# Altium integrated library con-leotronics.IntLib: 93 symbols (part 4 of 4)

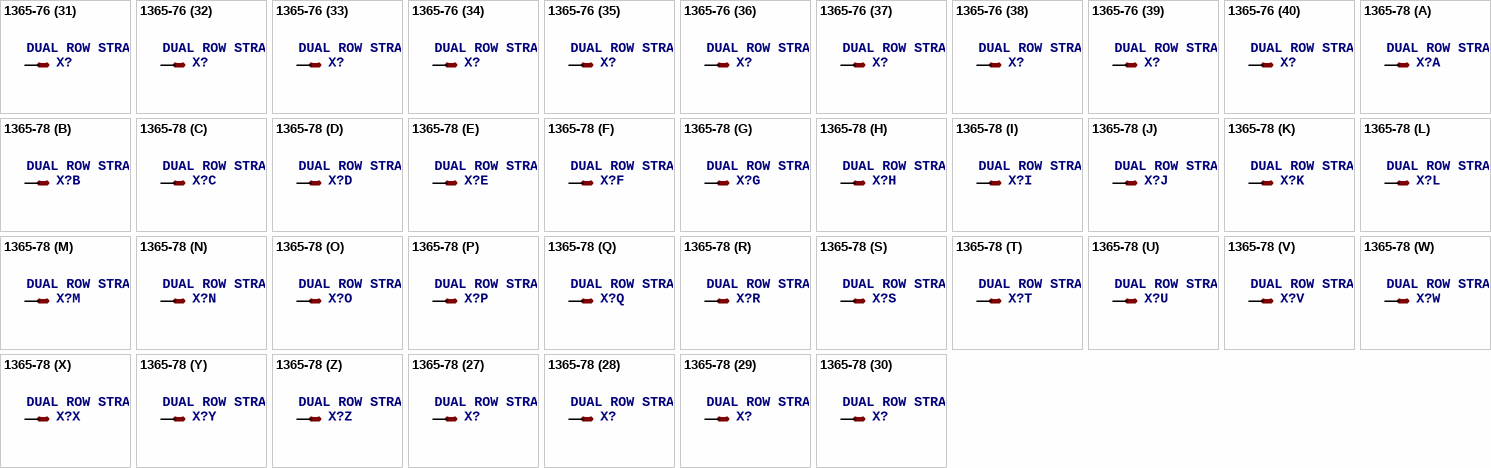
[diagram p69: symbols 1365-76 to 1365-78]

## 1365-76
designator X?, comment DUAL ROW STRAIGHT HEADER 1364 SERIES. 1.27mm x 1.27mm. Without Fixing Post. SMT   Source: http://www.leotronics.co.uk/Conexcon/Data%20Sheets/sec.%20A/1364ing.pdf
OC_FARNELL: unknown; OC_NEWARK: unknown
footprint 1365-76
part A pins: 1 S
part B pins: 2 S
part C pins: 3 S
part D pins: 4 S
part E pins: 5 S
part F pins: 6 S
part G pins: 7 S
part H pins: 8 S
part I pins: 9 S
part J pins: 10 S
part K pins: 11 S
part L pins: 12 S
part M pins: 13 S
part N pins: 14 S
part O pins: 15 S
part P pins: 16 S
part Q pins: 17 S
part R pins: 18 S
part S pins: 19 S
part T pins: 20 S
part U pins: 21 S
part V pins: 22 S
part W pins: 23 S
part X pins: 24 S
part Y pins: 25 S
part Z pins: 26 S
part 27 pins: 27 S
part 28 pins: 28 S
part 29 pins: 29 S
part 30 pins: 30 S
part 31 pins: 31 S
part 32 pins: 32 S
part 33 pins: 33 S
part 34 pins: 34 S
part 35 pins: 35 S
part 36 pins: 36 S
part 37 pins: 37 S
part 38 pins: 38 S
part 39 pins: 39 S
part 40 pins: 40 S
part 41 pins: 41 S
part 42 pins: 42 S
part 43 pins: 43 S
part 44 pins: 44 S
part 45 pins: 45 S
part 46 pins: 46 S
part 47 pins: 47 S
part 48 pins: 48 S
part 49 pins: 49 S
part 50 pins: 50 S
part 51 pins: 51 S
part 52 pins: 52 S
part 53 pins: 53 S
part 54 pins: 54 S
part 55 pins: 55 S
part 56 pins: 56 S
part 57 pins: 57 S
part 58 pins: 58 S
part 59 pins: 59 S
part 60 pins: 60 S
part 61 pins: 61 S
part 62 pins: 62 S
part 63 pins: 63 S
part 64 pins: 64 S
part 65 pins: 65 S
part 66 pins: 66 S
part 67 pins: 67 S
part 68 pins: 68 S
part 69 pins: 69 S
part 70 pins: 70 S
part 71 pins: 71 S
part 72 pins: 72 S
part 73 pins: 73 S
part 74 pins: 74 S
part 75 pins: 75 S
part 76 pins: 76 S

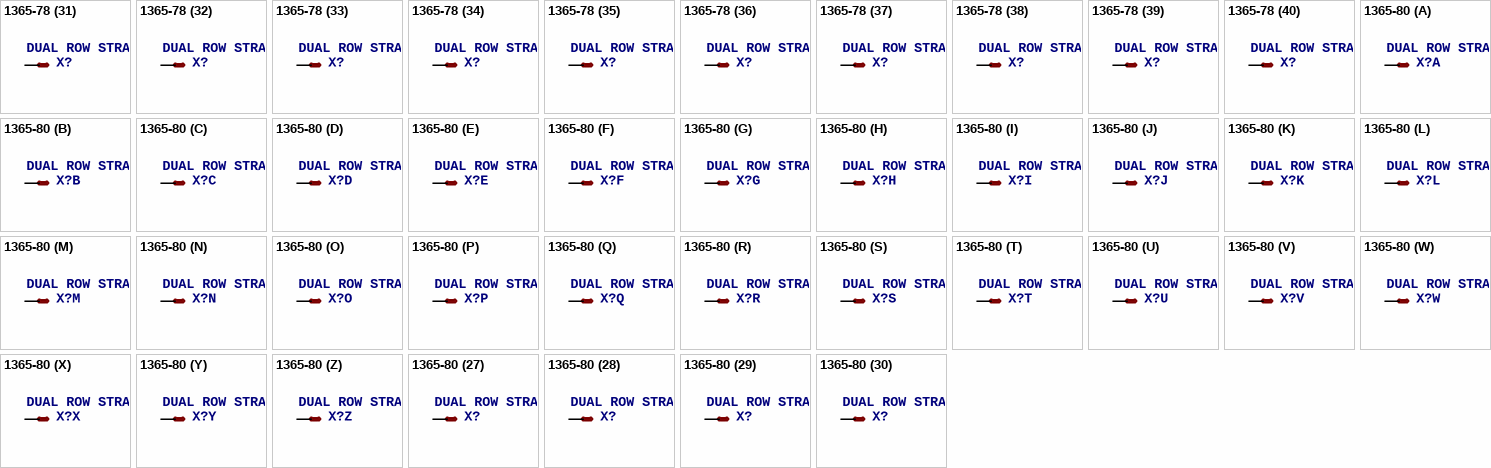
[diagram p70: symbols 1365-78 to 1365-80]

## 1365-78
designator X?, comment DUAL ROW STRAIGHT HEADER 1364 SERIES. 1.27mm x 1.27mm. Without Fixing Post. SMT   Source: http://www.leotronics.co.uk/Conexcon/Data%20Sheets/sec.%20A/1364ing.pdf
OC_FARNELL: unknown; OC_NEWARK: unknown
footprint 1365-78
part A pins: 1 S
part B pins: 2 S
part C pins: 3 S
part D pins: 4 S
part E pins: 5 S
part F pins: 6 S
part G pins: 7 S
part H pins: 8 S
part I pins: 9 S
part J pins: 10 S
part K pins: 11 S
part L pins: 12 S
part M pins: 13 S
part N pins: 14 S
part O pins: 15 S
part P pins: 16 S
part Q pins: 17 S
part R pins: 18 S
part S pins: 19 S
part T pins: 20 S
part U pins: 21 S
part V pins: 22 S
part W pins: 23 S
part X pins: 24 S
part Y pins: 25 S
part Z pins: 26 S
part 27 pins: 27 S
part 28 pins: 28 S
part 29 pins: 29 S
part 30 pins: 30 S
part 31 pins: 31 S
part 32 pins: 32 S
part 33 pins: 33 S
part 34 pins: 34 S
part 35 pins: 35 S
part 36 pins: 36 S
part 37 pins: 37 S
part 38 pins: 38 S
part 39 pins: 39 S
part 40 pins: 40 S
part 41 pins: 41 S
part 42 pins: 42 S
part 43 pins: 43 S
part 44 pins: 44 S
part 45 pins: 45 S
part 46 pins: 46 S
part 47 pins: 47 S
part 48 pins: 48 S
part 49 pins: 49 S
part 50 pins: 50 S
part 51 pins: 51 S
part 52 pins: 52 S
part 53 pins: 53 S
part 54 pins: 54 S
part 55 pins: 55 S
part 56 pins: 56 S
part 57 pins: 57 S
part 58 pins: 58 S
part 59 pins: 59 S
part 60 pins: 60 S
part 61 pins: 61 S
part 62 pins: 62 S
part 63 pins: 63 S
part 64 pins: 64 S
part 65 pins: 65 S
part 66 pins: 66 S
part 67 pins: 67 S
part 68 pins: 68 S
part 69 pins: 69 S
part 70 pins: 70 S
part 71 pins: 71 S
part 72 pins: 72 S
part 73 pins: 73 S
part 74 pins: 74 S
part 75 pins: 75 S
part 76 pins: 76 S
part 77 pins: 77 S
part 78 pins: 78 S

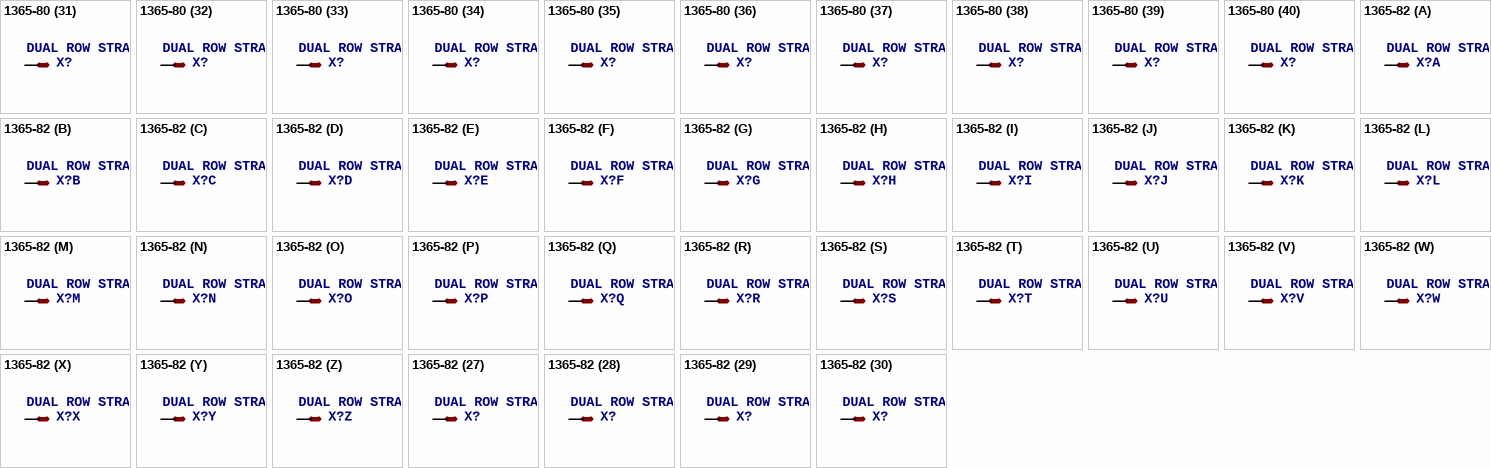
[diagram p71: symbols 1365-80 to 1365-82]

## 1365-80
designator X?, comment DUAL ROW STRAIGHT HEADER 1364 SERIES. 1.27mm x 1.27mm. Without Fixing Post. SMT   Source: http://www.leotronics.co.uk/Conexcon/Data%20Sheets/sec.%20A/1364ing.pdf
OC_FARNELL: unknown; OC_NEWARK: unknown
footprint 1365-80
part A pins: 1 S
part B pins: 2 S
part C pins: 3 S
part D pins: 4 S
part E pins: 5 S
part F pins: 6 S
part G pins: 7 S
part H pins: 8 S
part I pins: 9 S
part J pins: 10 S
part K pins: 11 S
part L pins: 12 S
part M pins: 13 S
part N pins: 14 S
part O pins: 15 S
part P pins: 16 S
part Q pins: 17 S
part R pins: 18 S
part S pins: 19 S
part T pins: 20 S
part U pins: 21 S
part V pins: 22 S
part W pins: 23 S
part X pins: 24 S
part Y pins: 25 S
part Z pins: 26 S
part 27 pins: 27 S
part 28 pins: 28 S
part 29 pins: 29 S
part 30 pins: 30 S
part 31 pins: 31 S
part 32 pins: 32 S
part 33 pins: 33 S
part 34 pins: 34 S
part 35 pins: 35 S
part 36 pins: 36 S
part 37 pins: 37 S
part 38 pins: 38 S
part 39 pins: 39 S
part 40 pins: 40 S
part 41 pins: 41 S
part 42 pins: 42 S
part 43 pins: 43 S
part 44 pins: 44 S
part 45 pins: 45 S
part 46 pins: 46 S
part 47 pins: 47 S
part 48 pins: 48 S
part 49 pins: 49 S
part 50 pins: 50 S
part 51 pins: 51 S
part 52 pins: 52 S
part 53 pins: 53 S
part 54 pins: 54 S
part 55 pins: 55 S
part 56 pins: 56 S
part 57 pins: 57 S
part 58 pins: 58 S
part 59 pins: 59 S
part 60 pins: 60 S
part 61 pins: 61 S
part 62 pins: 62 S
part 63 pins: 63 S
part 64 pins: 64 S
part 65 pins: 65 S
part 66 pins: 66 S
part 67 pins: 67 S
part 68 pins: 68 S
part 69 pins: 69 S
part 70 pins: 70 S
part 71 pins: 71 S
part 72 pins: 72 S
part 73 pins: 73 S
part 74 pins: 74 S
part 75 pins: 75 S
part 76 pins: 76 S
part 77 pins: 77 S
part 78 pins: 78 S
part 79 pins: 79 S
part 80 pins: 80 S

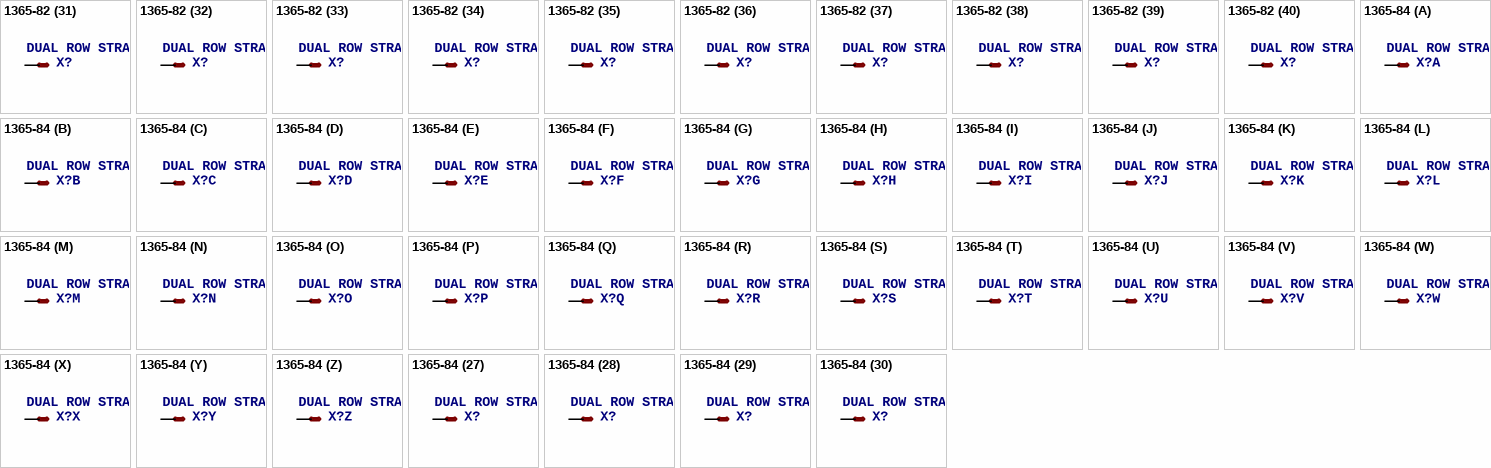
[diagram p72: symbols 1365-82 to 1365-84]

## 1365-82
designator X?, comment DUAL ROW STRAIGHT HEADER 1364 SERIES. 1.27mm x 1.27mm. Without Fixing Post. SMT   Source: http://www.leotronics.co.uk/Conexcon/Data%20Sheets/sec.%20A/1364ing.pdf
OC_FARNELL: unknown; OC_NEWARK: unknown
footprint 1365-82
part A pins: 1 S
part B pins: 2 S
part C pins: 3 S
part D pins: 4 S
part E pins: 5 S
part F pins: 6 S
part G pins: 7 S
part H pins: 8 S
part I pins: 9 S
part J pins: 10 S
part K pins: 11 S
part L pins: 12 S
part M pins: 13 S
part N pins: 14 S
part O pins: 15 S
part P pins: 16 S
part Q pins: 17 S
part R pins: 18 S
part S pins: 19 S
part T pins: 20 S
part U pins: 21 S
part V pins: 22 S
part W pins: 23 S
part X pins: 24 S
part Y pins: 25 S
part Z pins: 26 S
part 27 pins: 27 S
part 28 pins: 28 S
part 29 pins: 29 S
part 30 pins: 30 S
part 31 pins: 31 S
part 32 pins: 32 S
part 33 pins: 33 S
part 34 pins: 34 S
part 35 pins: 35 S
part 36 pins: 36 S
part 37 pins: 37 S
part 38 pins: 38 S
part 39 pins: 39 S
part 40 pins: 40 S
part 41 pins: 41 S
part 42 pins: 42 S
part 43 pins: 43 S
part 44 pins: 44 S
part 45 pins: 45 S
part 46 pins: 46 S
part 47 pins: 47 S
part 48 pins: 48 S
part 49 pins: 49 S
part 50 pins: 50 S
part 51 pins: 51 S
part 52 pins: 52 S
part 53 pins: 53 S
part 54 pins: 54 S
part 55 pins: 55 S
part 56 pins: 56 S
part 57 pins: 57 S
part 58 pins: 58 S
part 59 pins: 59 S
part 60 pins: 60 S
part 61 pins: 61 S
part 62 pins: 62 S
part 63 pins: 63 S
part 64 pins: 64 S
part 65 pins: 65 S
part 66 pins: 66 S
part 67 pins: 67 S
part 68 pins: 68 S
part 69 pins: 69 S
part 70 pins: 70 S
part 71 pins: 71 S
part 72 pins: 72 S
part 73 pins: 73 S
part 74 pins: 74 S
part 75 pins: 75 S
part 76 pins: 76 S
part 77 pins: 77 S
part 78 pins: 78 S
part 79 pins: 79 S
part 80 pins: 80 S
part 81 pins: 81 S
part 82 pins: 82 S

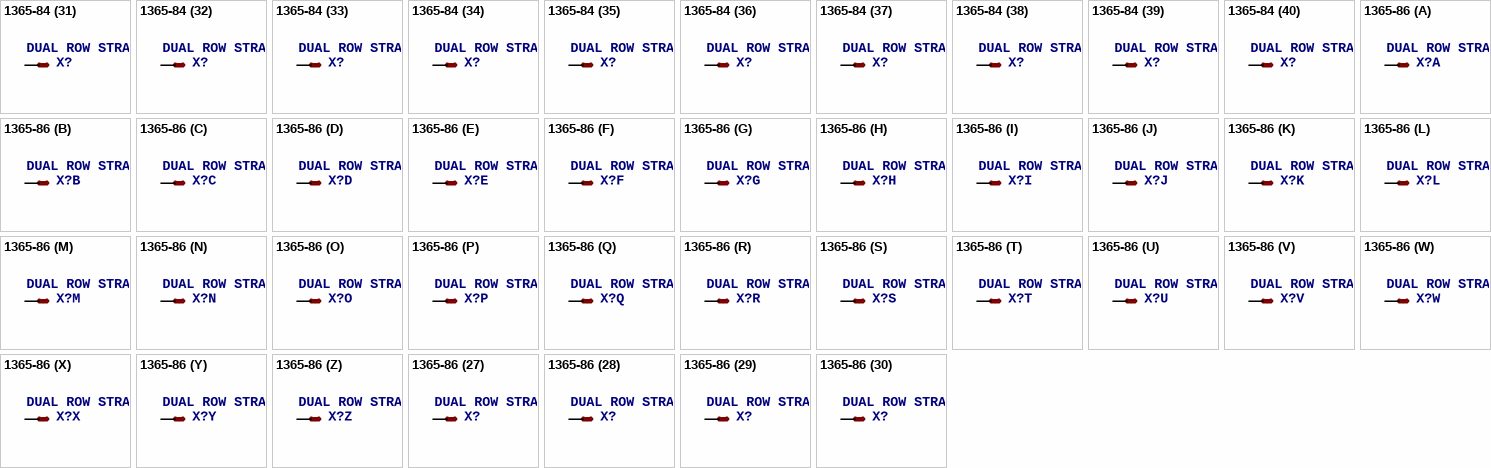
[diagram p73: symbols 1365-84 to 1365-86]

## 1365-84
designator X?, comment DUAL ROW STRAIGHT HEADER 1364 SERIES. 1.27mm x 1.27mm. Without Fixing Post. SMT   Source: http://www.leotronics.co.uk/Conexcon/Data%20Sheets/sec.%20A/1364ing.pdf
OC_FARNELL: unknown; OC_NEWARK: unknown
footprint 1365-84
part A pins: 1 S
part B pins: 2 S
part C pins: 3 S
part D pins: 4 S
part E pins: 5 S
part F pins: 6 S
part G pins: 7 S
part H pins: 8 S
part I pins: 9 S
part J pins: 10 S
part K pins: 11 S
part L pins: 12 S
part M pins: 13 S
part N pins: 14 S
part O pins: 15 S
part P pins: 16 S
part Q pins: 17 S
part R pins: 18 S
part S pins: 19 S
part T pins: 20 S
part U pins: 21 S
part V pins: 22 S
part W pins: 23 S
part X pins: 24 S
part Y pins: 25 S
part Z pins: 26 S
part 27 pins: 27 S
part 28 pins: 28 S
part 29 pins: 29 S
part 30 pins: 30 S
part 31 pins: 31 S
part 32 pins: 32 S
part 33 pins: 33 S
part 34 pins: 34 S
part 35 pins: 35 S
part 36 pins: 36 S
part 37 pins: 37 S
part 38 pins: 38 S
part 39 pins: 39 S
part 40 pins: 40 S
part 41 pins: 41 S
part 42 pins: 42 S
part 43 pins: 43 S
part 44 pins: 44 S
part 45 pins: 45 S
part 46 pins: 46 S
part 47 pins: 47 S
part 48 pins: 48 S
part 49 pins: 49 S
part 50 pins: 50 S
part 51 pins: 51 S
part 52 pins: 52 S
part 53 pins: 53 S
part 54 pins: 54 S
part 55 pins: 55 S
part 56 pins: 56 S
part 57 pins: 57 S
part 58 pins: 58 S
part 59 pins: 59 S
part 60 pins: 60 S
part 61 pins: 61 S
part 62 pins: 62 S
part 63 pins: 63 S
part 64 pins: 64 S
part 65 pins: 65 S
part 66 pins: 66 S
part 67 pins: 67 S
part 68 pins: 68 S
part 69 pins: 69 S
part 70 pins: 70 S
part 71 pins: 71 S
part 72 pins: 72 S
part 73 pins: 73 S
part 74 pins: 74 S
part 75 pins: 75 S
part 76 pins: 76 S
part 77 pins: 77 S
part 78 pins: 78 S
part 79 pins: 79 S
part 80 pins: 80 S
part 81 pins: 81 S
part 82 pins: 82 S
part 83 pins: 83 S
part 84 pins: 84 S

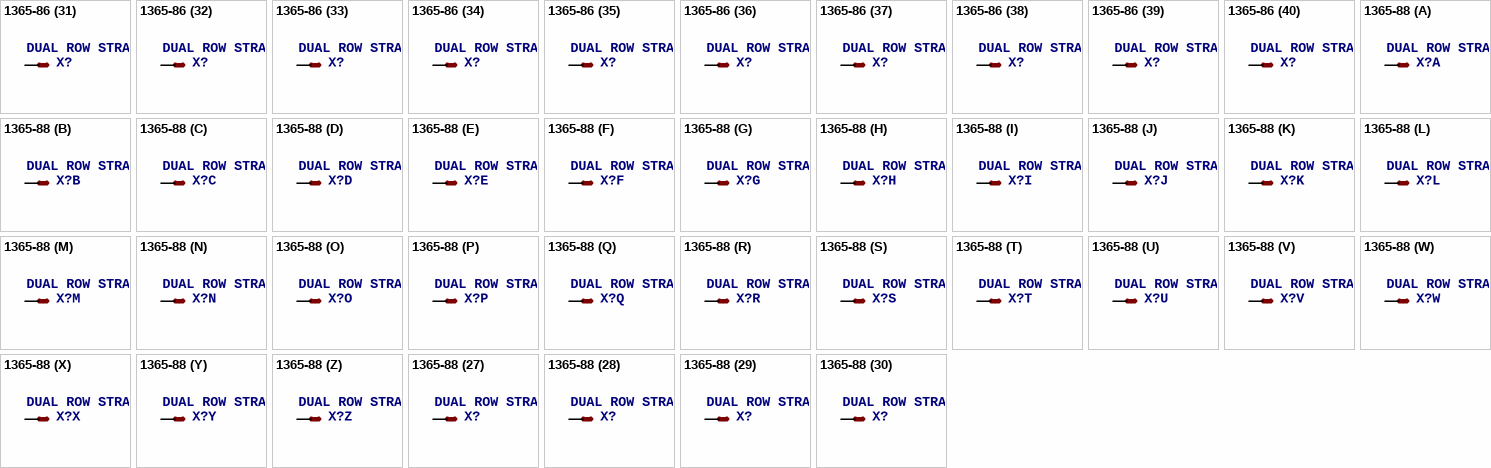
[diagram p74: symbols 1365-86 to 1365-88]

## 1365-86
designator X?, comment DUAL ROW STRAIGHT HEADER 1364 SERIES. 1.27mm x 1.27mm. Without Fixing Post. SMT   Source: http://www.leotronics.co.uk/Conexcon/Data%20Sheets/sec.%20A/1364ing.pdf
OC_FARNELL: unknown; OC_NEWARK: unknown
footprint 1365-86
part A pins: 1 S
part B pins: 2 S
part C pins: 3 S
part D pins: 4 S
part E pins: 5 S
part F pins: 6 S
part G pins: 7 S
part H pins: 8 S
part I pins: 9 S
part J pins: 10 S
part K pins: 11 S
part L pins: 12 S
part M pins: 13 S
part N pins: 14 S
part O pins: 15 S
part P pins: 16 S
part Q pins: 17 S
part R pins: 18 S
part S pins: 19 S
part T pins: 20 S
part U pins: 21 S
part V pins: 22 S
part W pins: 23 S
part X pins: 24 S
part Y pins: 25 S
part Z pins: 26 S
part 27 pins: 27 S
part 28 pins: 28 S
part 29 pins: 29 S
part 30 pins: 30 S
part 31 pins: 31 S
part 32 pins: 32 S
part 33 pins: 33 S
part 34 pins: 34 S
part 35 pins: 35 S
part 36 pins: 36 S
part 37 pins: 37 S
part 38 pins: 38 S
part 39 pins: 39 S
part 40 pins: 40 S
part 41 pins: 41 S
part 42 pins: 42 S
part 43 pins: 43 S
part 44 pins: 44 S
part 45 pins: 45 S
part 46 pins: 46 S
part 47 pins: 47 S
part 48 pins: 48 S
part 49 pins: 49 S
part 50 pins: 50 S
part 51 pins: 51 S
part 52 pins: 52 S
part 53 pins: 53 S
part 54 pins: 54 S
part 55 pins: 55 S
part 56 pins: 56 S
part 57 pins: 57 S
part 58 pins: 58 S
part 59 pins: 59 S
part 60 pins: 60 S
part 61 pins: 61 S
part 62 pins: 62 S
part 63 pins: 63 S
part 64 pins: 64 S
part 65 pins: 65 S
part 66 pins: 66 S
part 67 pins: 67 S
part 68 pins: 68 S
part 69 pins: 69 S
part 70 pins: 70 S
part 71 pins: 71 S
part 72 pins: 72 S
part 73 pins: 73 S
part 74 pins: 74 S
part 75 pins: 75 S
part 76 pins: 76 S
part 77 pins: 77 S
part 78 pins: 78 S
part 79 pins: 79 S
part 80 pins: 80 S
part 81 pins: 81 S
part 82 pins: 82 S
part 83 pins: 83 S
part 84 pins: 84 S
part 85 pins: 85 S
part 86 pins: 86 S

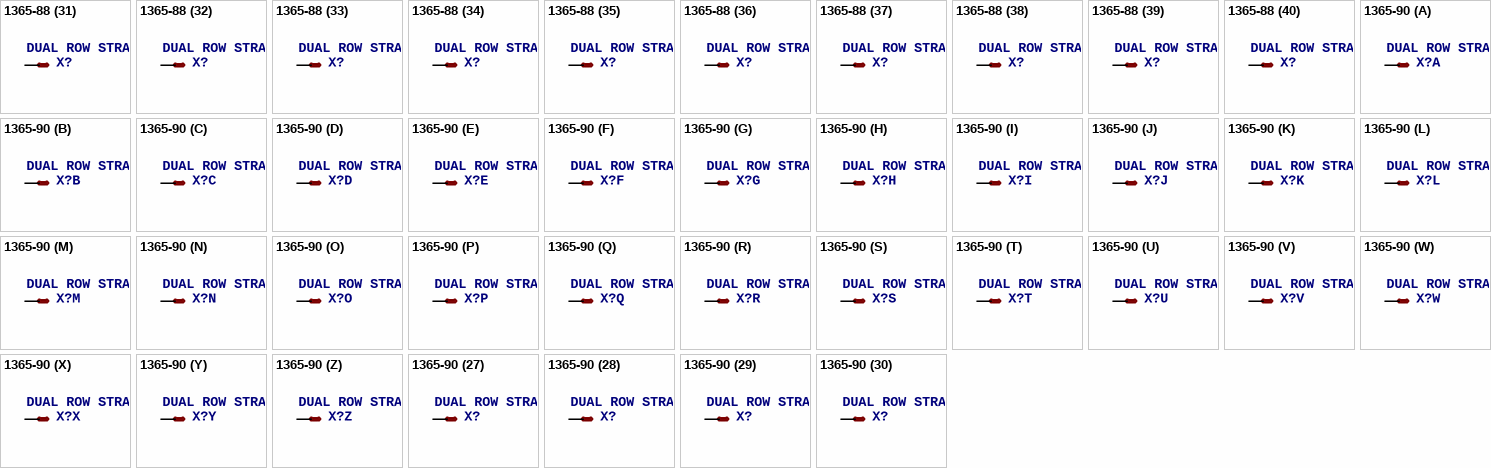
[diagram p75: symbols 1365-88 to 1365-90]

## 1365-88
designator X?, comment DUAL ROW STRAIGHT HEADER 1364 SERIES. 1.27mm x 1.27mm. Without Fixing Post. SMT   Source: http://www.leotronics.co.uk/Conexcon/Data%20Sheets/sec.%20A/1364ing.pdf
OC_FARNELL: unknown; OC_NEWARK: unknown
footprint 1365-88
part A pins: 1 S
part B pins: 2 S
part C pins: 3 S
part D pins: 4 S
part E pins: 5 S
part F pins: 6 S
part G pins: 7 S
part H pins: 8 S
part I pins: 9 S
part J pins: 10 S
part K pins: 11 S
part L pins: 12 S
part M pins: 13 S
part N pins: 14 S
part O pins: 15 S
part P pins: 16 S
part Q pins: 17 S
part R pins: 18 S
part S pins: 19 S
part T pins: 20 S
part U pins: 21 S
part V pins: 22 S
part W pins: 23 S
part X pins: 24 S
part Y pins: 25 S
part Z pins: 26 S
part 27 pins: 27 S
part 28 pins: 28 S
part 29 pins: 29 S
part 30 pins: 30 S
part 31 pins: 31 S
part 32 pins: 32 S
part 33 pins: 33 S
part 34 pins: 34 S
part 35 pins: 35 S
part 36 pins: 36 S
part 37 pins: 37 S
part 38 pins: 38 S
part 39 pins: 39 S
part 40 pins: 40 S
part 41 pins: 41 S
part 42 pins: 42 S
part 43 pins: 43 S
part 44 pins: 44 S
part 45 pins: 45 S
part 46 pins: 46 S
part 47 pins: 47 S
part 48 pins: 48 S
part 49 pins: 49 S
part 50 pins: 50 S
part 51 pins: 51 S
part 52 pins: 52 S
part 53 pins: 53 S
part 54 pins: 54 S
part 55 pins: 55 S
part 56 pins: 56 S
part 57 pins: 57 S
part 58 pins: 58 S
part 59 pins: 59 S
part 60 pins: 60 S
part 61 pins: 61 S
part 62 pins: 62 S
part 63 pins: 63 S
part 64 pins: 64 S
part 65 pins: 65 S
part 66 pins: 66 S
part 67 pins: 67 S
part 68 pins: 68 S
part 69 pins: 69 S
part 70 pins: 70 S
part 71 pins: 71 S
part 72 pins: 72 S
part 73 pins: 73 S
part 74 pins: 74 S
part 75 pins: 75 S
part 76 pins: 76 S
part 77 pins: 77 S
part 78 pins: 78 S
part 79 pins: 79 S
part 80 pins: 80 S
part 81 pins: 81 S
part 82 pins: 82 S
part 83 pins: 83 S
part 84 pins: 84 S
part 85 pins: 85 S
part 86 pins: 86 S
part 87 pins: 87 S
part 88 pins: 88 S

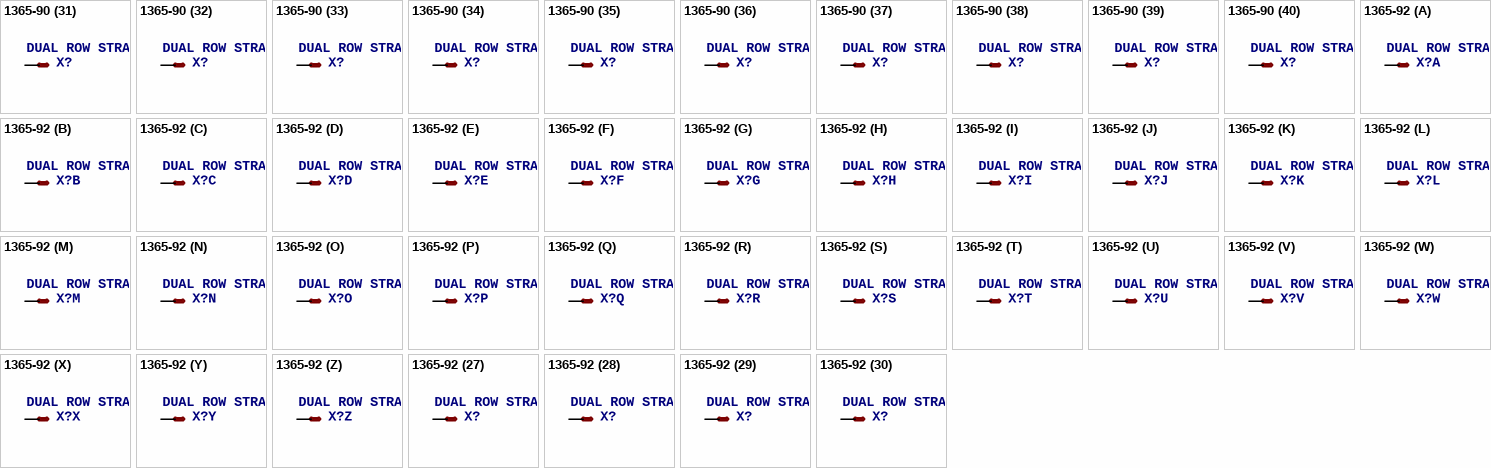
[diagram p76: symbols 1365-90 to 1365-92]

## 1365-90
designator X?, comment DUAL ROW STRAIGHT HEADER 1364 SERIES. 1.27mm x 1.27mm. Without Fixing Post. SMT   Source: http://www.leotronics.co.uk/Conexcon/Data%20Sheets/sec.%20A/1364ing.pdf
OC_FARNELL: unknown; OC_NEWARK: unknown
footprint 1365-90
part A pins: 1 S
part B pins: 2 S
part C pins: 3 S
part D pins: 4 S
part E pins: 5 S
part F pins: 6 S
part G pins: 7 S
part H pins: 8 S
part I pins: 9 S
part J pins: 10 S
part K pins: 11 S
part L pins: 12 S
part M pins: 13 S
part N pins: 14 S
part O pins: 15 S
part P pins: 16 S
part Q pins: 17 S
part R pins: 18 S
part S pins: 19 S
part T pins: 20 S
part U pins: 21 S
part V pins: 22 S
part W pins: 23 S
part X pins: 24 S
part Y pins: 25 S
part Z pins: 26 S
part 27 pins: 27 S
part 28 pins: 28 S
part 29 pins: 29 S
part 30 pins: 30 S
part 31 pins: 31 S
part 32 pins: 32 S
part 33 pins: 33 S
part 34 pins: 34 S
part 35 pins: 35 S
part 36 pins: 36 S
part 37 pins: 37 S
part 38 pins: 38 S
part 39 pins: 39 S
part 40 pins: 40 S
part 41 pins: 41 S
part 42 pins: 42 S
part 43 pins: 43 S
part 44 pins: 44 S
part 45 pins: 45 S
part 46 pins: 46 S
part 47 pins: 47 S
part 48 pins: 48 S
part 49 pins: 49 S
part 50 pins: 50 S
part 51 pins: 51 S
part 52 pins: 52 S
part 53 pins: 53 S
part 54 pins: 54 S
part 55 pins: 55 S
part 56 pins: 56 S
part 57 pins: 57 S
part 58 pins: 58 S
part 59 pins: 59 S
part 60 pins: 60 S
part 61 pins: 61 S
part 62 pins: 62 S
part 63 pins: 63 S
part 64 pins: 64 S
part 65 pins: 65 S
part 66 pins: 66 S
part 67 pins: 67 S
part 68 pins: 68 S
part 69 pins: 69 S
part 70 pins: 70 S
part 71 pins: 71 S
part 72 pins: 72 S
part 73 pins: 73 S
part 74 pins: 74 S
part 75 pins: 75 S
part 76 pins: 76 S
part 77 pins: 77 S
part 78 pins: 78 S
part 79 pins: 79 S
part 80 pins: 80 S
part 81 pins: 81 S
part 82 pins: 82 S
part 83 pins: 83 S
part 84 pins: 84 S
part 85 pins: 85 S
part 86 pins: 86 S
part 87 pins: 87 S
part 88 pins: 88 S
part 89 pins: 89 S
part 90 pins: 90 S

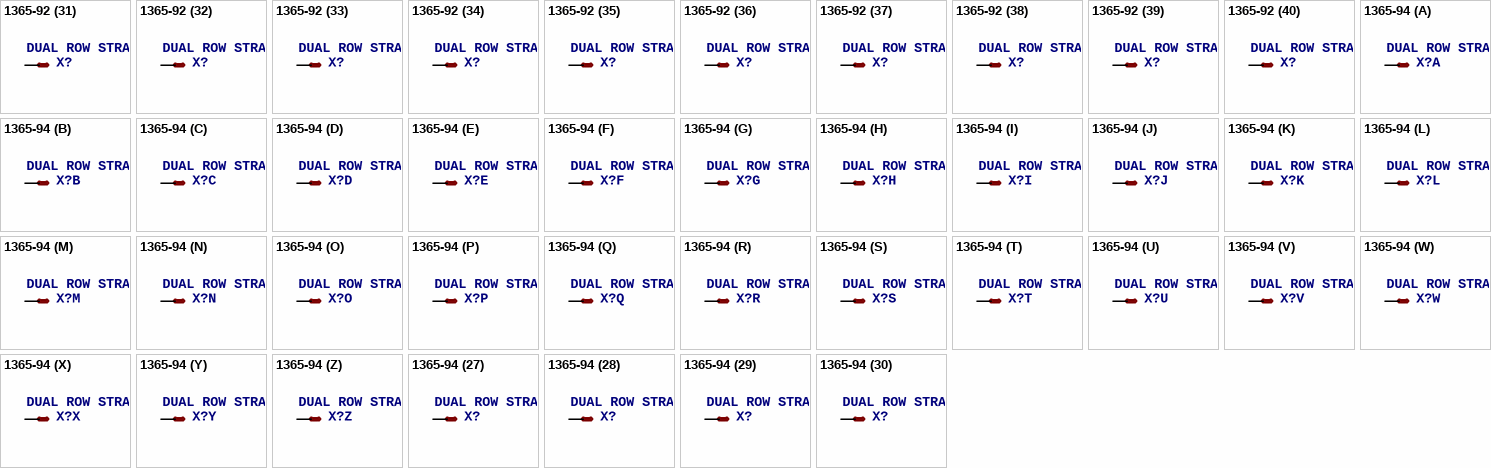
[diagram p77: symbols 1365-92 to 1365-94]

## 1365-92
designator X?, comment DUAL ROW STRAIGHT HEADER 1364 SERIES. 1.27mm x 1.27mm. Without Fixing Post. SMT   Source: http://www.leotronics.co.uk/Conexcon/Data%20Sheets/sec.%20A/1364ing.pdf
OC_FARNELL: unknown; OC_NEWARK: unknown
footprint 1365-92
part A pins: 1 S
part B pins: 2 S
part C pins: 3 S
part D pins: 4 S
part E pins: 5 S
part F pins: 6 S
part G pins: 7 S
part H pins: 8 S
part I pins: 9 S
part J pins: 10 S
part K pins: 11 S
part L pins: 12 S
part M pins: 13 S
part N pins: 14 S
part O pins: 15 S
part P pins: 16 S
part Q pins: 17 S
part R pins: 18 S
part S pins: 19 S
part T pins: 20 S
part U pins: 21 S
part V pins: 22 S
part W pins: 23 S
part X pins: 24 S
part Y pins: 25 S
part Z pins: 26 S
part 27 pins: 27 S
part 28 pins: 28 S
part 29 pins: 29 S
part 30 pins: 30 S
part 31 pins: 31 S
part 32 pins: 32 S
part 33 pins: 33 S
part 34 pins: 34 S
part 35 pins: 35 S
part 36 pins: 36 S
part 37 pins: 37 S
part 38 pins: 38 S
part 39 pins: 39 S
part 40 pins: 40 S
part 41 pins: 41 S
part 42 pins: 42 S
part 43 pins: 43 S
part 44 pins: 44 S
part 45 pins: 45 S
part 46 pins: 46 S
part 47 pins: 47 S
part 48 pins: 48 S
part 49 pins: 49 S
part 50 pins: 50 S
part 51 pins: 51 S
part 52 pins: 52 S
part 53 pins: 53 S
part 54 pins: 54 S
part 55 pins: 55 S
part 56 pins: 56 S
part 57 pins: 57 S
part 58 pins: 58 S
part 59 pins: 59 S
part 60 pins: 60 S
part 61 pins: 61 S
part 62 pins: 62 S
part 63 pins: 63 S
part 64 pins: 64 S
part 65 pins: 65 S
part 66 pins: 66 S
part 67 pins: 67 S
part 68 pins: 68 S
part 69 pins: 69 S
part 70 pins: 70 S
part 71 pins: 71 S
part 72 pins: 72 S
part 73 pins: 73 S
part 74 pins: 74 S
part 75 pins: 75 S
part 76 pins: 76 S
part 77 pins: 77 S
part 78 pins: 78 S
part 79 pins: 79 S
part 80 pins: 80 S
part 81 pins: 81 S
part 82 pins: 82 S
part 83 pins: 83 S
part 84 pins: 84 S
part 85 pins: 85 S
part 86 pins: 86 S
part 87 pins: 87 S
part 88 pins: 88 S
part 89 pins: 89 S
part 90 pins: 90 S
part 91 pins: 91 S
part 92 pins: 92 S

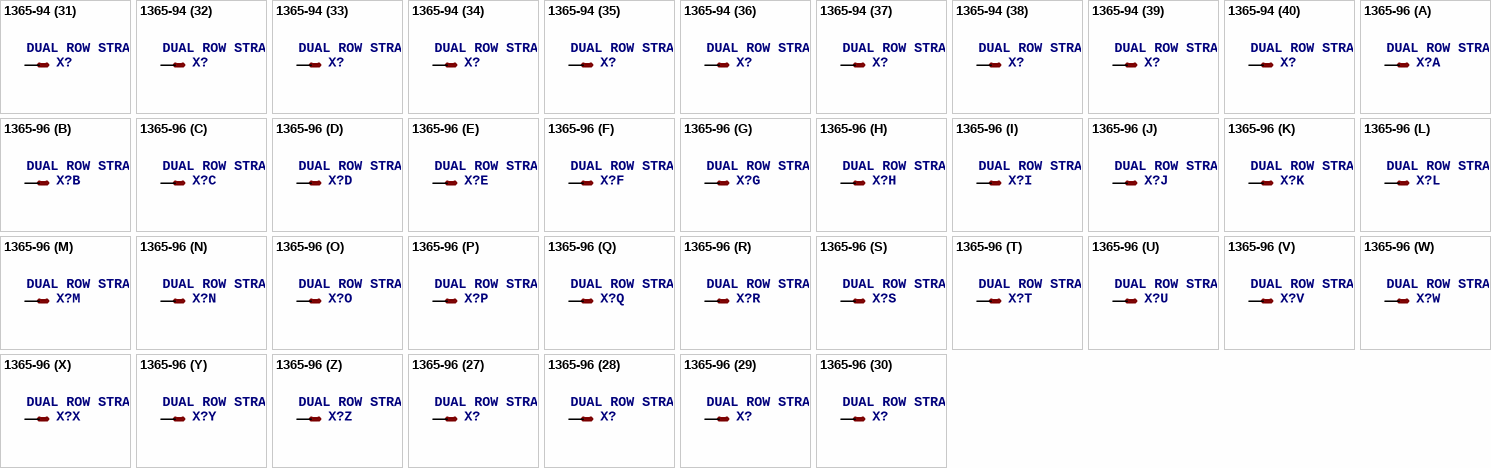
[diagram p78: symbols 1365-94 to 1365-96]

## 1365-94
designator X?, comment DUAL ROW STRAIGHT HEADER 1364 SERIES. 1.27mm x 1.27mm. Without Fixing Post. SMT   Source: http://www.leotronics.co.uk/Conexcon/Data%20Sheets/sec.%20A/1364ing.pdf
OC_FARNELL: unknown; OC_NEWARK: unknown
footprint 1365-94
part A pins: 1 S
part B pins: 2 S
part C pins: 3 S
part D pins: 4 S
part E pins: 5 S
part F pins: 6 S
part G pins: 7 S
part H pins: 8 S
part I pins: 9 S
part J pins: 10 S
part K pins: 11 S
part L pins: 12 S
part M pins: 13 S
part N pins: 14 S
part O pins: 15 S
part P pins: 16 S
part Q pins: 17 S
part R pins: 18 S
part S pins: 19 S
part T pins: 20 S
part U pins: 21 S
part V pins: 22 S
part W pins: 23 S
part X pins: 24 S
part Y pins: 25 S
part Z pins: 26 S
part 27 pins: 27 S
part 28 pins: 28 S
part 29 pins: 29 S
part 30 pins: 30 S
part 31 pins: 31 S
part 32 pins: 32 S
part 33 pins: 33 S
part 34 pins: 34 S
part 35 pins: 35 S
part 36 pins: 36 S
part 37 pins: 37 S
part 38 pins: 38 S
part 39 pins: 39 S
part 40 pins: 40 S
part 41 pins: 41 S
part 42 pins: 42 S
part 43 pins: 43 S
part 44 pins: 44 S
part 45 pins: 45 S
part 46 pins: 46 S
part 47 pins: 47 S
part 48 pins: 48 S
part 49 pins: 49 S
part 50 pins: 50 S
part 51 pins: 51 S
part 52 pins: 52 S
part 53 pins: 53 S
part 54 pins: 54 S
part 55 pins: 55 S
part 56 pins: 56 S
part 57 pins: 57 S
part 58 pins: 58 S
part 59 pins: 59 S
part 60 pins: 60 S
part 61 pins: 61 S
part 62 pins: 62 S
part 63 pins: 63 S
part 64 pins: 64 S
part 65 pins: 65 S
part 66 pins: 66 S
part 67 pins: 67 S
part 68 pins: 68 S
part 69 pins: 69 S
part 70 pins: 70 S
part 71 pins: 71 S
part 72 pins: 72 S
part 73 pins: 73 S
part 74 pins: 74 S
part 75 pins: 75 S
part 76 pins: 76 S
part 77 pins: 77 S
part 78 pins: 78 S
part 79 pins: 79 S
part 80 pins: 80 S
part 81 pins: 81 S
part 82 pins: 82 S
part 83 pins: 83 S
part 84 pins: 84 S
part 85 pins: 85 S
part 86 pins: 86 S
part 87 pins: 87 S
part 88 pins: 88 S
part 89 pins: 89 S
part 90 pins: 90 S
part 91 pins: 91 S
part 92 pins: 92 S
part 93 pins: 93 S
part 94 pins: 94 S

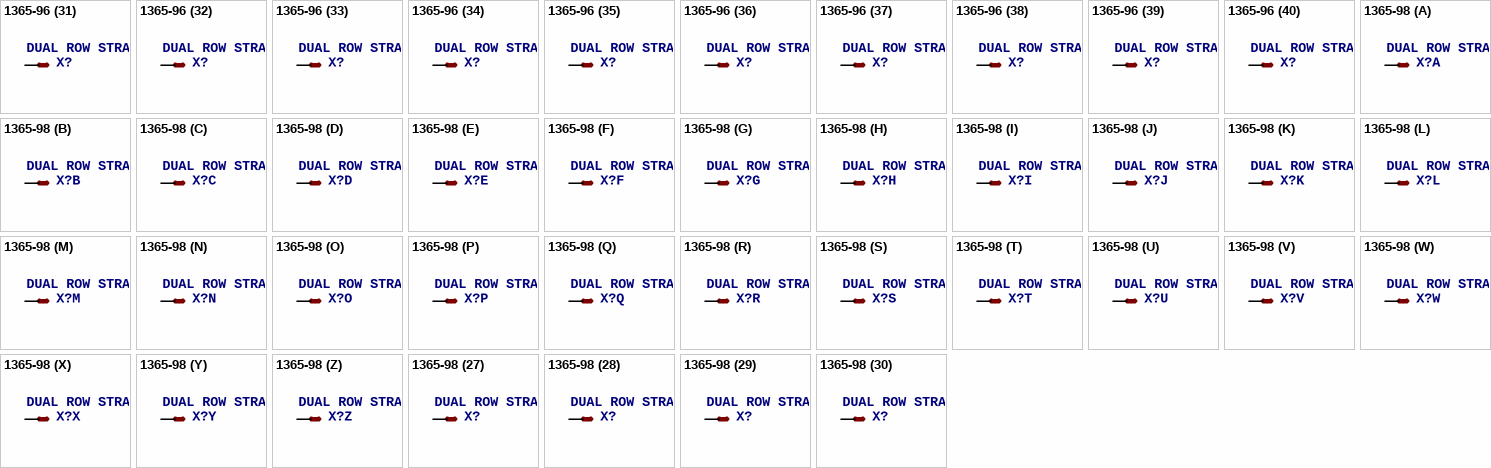
[diagram p79: symbols 1365-96 to 1365-98]

## 1365-96
designator X?, comment DUAL ROW STRAIGHT HEADER 1364 SERIES. 1.27mm x 1.27mm. Without Fixing Post. SMT   Source: http://www.leotronics.co.uk/Conexcon/Data%20Sheets/sec.%20A/1364ing.pdf
OC_FARNELL: unknown; OC_NEWARK: unknown
footprint 1365-96
part A pins: 1 S
part B pins: 2 S
part C pins: 3 S
part D pins: 4 S
part E pins: 5 S
part F pins: 6 S
part G pins: 7 S
part H pins: 8 S
part I pins: 9 S
part J pins: 10 S
part K pins: 11 S
part L pins: 12 S
part M pins: 13 S
part N pins: 14 S
part O pins: 15 S
part P pins: 16 S
part Q pins: 17 S
part R pins: 18 S
part S pins: 19 S
part T pins: 20 S
part U pins: 21 S
part V pins: 22 S
part W pins: 23 S
part X pins: 24 S
part Y pins: 25 S
part Z pins: 26 S
part 27 pins: 27 S
part 28 pins: 28 S
part 29 pins: 29 S
part 30 pins: 30 S
part 31 pins: 31 S
part 32 pins: 32 S
part 33 pins: 33 S
part 34 pins: 34 S
part 35 pins: 35 S
part 36 pins: 36 S
part 37 pins: 37 S
part 38 pins: 38 S
part 39 pins: 39 S
part 40 pins: 40 S
part 41 pins: 41 S
part 42 pins: 42 S
part 43 pins: 43 S
part 44 pins: 44 S
part 45 pins: 45 S
part 46 pins: 46 S
part 47 pins: 47 S
part 48 pins: 48 S
part 49 pins: 49 S
part 50 pins: 50 S
part 51 pins: 51 S
part 52 pins: 52 S
part 53 pins: 53 S
part 54 pins: 54 S
part 55 pins: 55 S
part 56 pins: 56 S
part 57 pins: 57 S
part 58 pins: 58 S
part 59 pins: 59 S
part 60 pins: 60 S
part 61 pins: 61 S
part 62 pins: 62 S
part 63 pins: 63 S
part 64 pins: 64 S
part 65 pins: 65 S
part 66 pins: 66 S
part 67 pins: 67 S
part 68 pins: 68 S
part 69 pins: 69 S
part 70 pins: 70 S
part 71 pins: 71 S
part 72 pins: 72 S
part 73 pins: 73 S
part 74 pins: 74 S
part 75 pins: 75 S
part 76 pins: 76 S
part 77 pins: 77 S
part 78 pins: 78 S
part 79 pins: 79 S
part 80 pins: 80 S
part 81 pins: 81 S
part 82 pins: 82 S
part 83 pins: 83 S
part 84 pins: 84 S
part 85 pins: 85 S
part 86 pins: 86 S
part 87 pins: 87 S
part 88 pins: 88 S
part 89 pins: 89 S
part 90 pins: 90 S
part 91 pins: 91 S
part 92 pins: 92 S
part 93 pins: 93 S
part 94 pins: 94 S
part 95 pins: 95 S
part 96 pins: 96 S

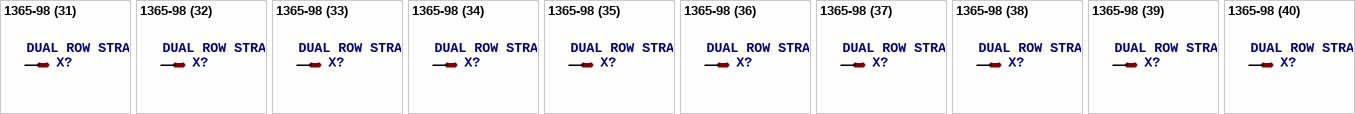
[diagram p80: symbol 1365-98]

## 1365-98
designator X?, comment DUAL ROW STRAIGHT HEADER 1364 SERIES. 1.27mm x 1.27mm. Without Fixing Post. SMT   Source: http://www.leotronics.co.uk/Conexcon/Data%20Sheets/sec.%20A/1364ing.pdf
OC_FARNELL: unknown; OC_NEWARK: unknown
footprint 1365-98
part A pins: 1 S
part B pins: 2 S
part C pins: 3 S
part D pins: 4 S
part E pins: 5 S
part F pins: 6 S
part G pins: 7 S
part H pins: 8 S
part I pins: 9 S
part J pins: 10 S
part K pins: 11 S
part L pins: 12 S
part M pins: 13 S
part N pins: 14 S
part O pins: 15 S
part P pins: 16 S
part Q pins: 17 S
part R pins: 18 S
part S pins: 19 S
part T pins: 20 S
part U pins: 21 S
part V pins: 22 S
part W pins: 23 S
part X pins: 24 S
part Y pins: 25 S
part Z pins: 26 S
part 27 pins: 27 S
part 28 pins: 28 S
part 29 pins: 29 S
part 30 pins: 30 S
part 31 pins: 31 S
part 32 pins: 32 S
part 33 pins: 33 S
part 34 pins: 34 S
part 35 pins: 35 S
part 36 pins: 36 S
part 37 pins: 37 S
part 38 pins: 38 S
part 39 pins: 39 S
part 40 pins: 40 S
part 41 pins: 41 S
part 42 pins: 42 S
part 43 pins: 43 S
part 44 pins: 44 S
part 45 pins: 45 S
part 46 pins: 46 S
part 47 pins: 47 S
part 48 pins: 48 S
part 49 pins: 49 S
part 50 pins: 50 S
part 51 pins: 51 S
part 52 pins: 52 S
part 53 pins: 53 S
part 54 pins: 54 S
part 55 pins: 55 S
part 56 pins: 56 S
part 57 pins: 57 S
part 58 pins: 58 S
part 59 pins: 59 S
part 60 pins: 60 S
part 61 pins: 61 S
part 62 pins: 62 S
part 63 pins: 63 S
part 64 pins: 64 S
part 65 pins: 65 S
part 66 pins: 66 S
part 67 pins: 67 S
part 68 pins: 68 S
part 69 pins: 69 S
part 70 pins: 70 S
part 71 pins: 71 S
part 72 pins: 72 S
part 73 pins: 73 S
part 74 pins: 74 S
part 75 pins: 75 S
part 76 pins: 76 S
part 77 pins: 77 S
part 78 pins: 78 S
part 79 pins: 79 S
part 80 pins: 80 S
part 81 pins: 81 S
part 82 pins: 82 S
part 83 pins: 83 S
part 84 pins: 84 S
part 85 pins: 85 S
part 86 pins: 86 S
part 87 pins: 87 S
part 88 pins: 88 S
part 89 pins: 89 S
part 90 pins: 90 S
part 91 pins: 91 S
part 92 pins: 92 S
part 93 pins: 93 S
part 94 pins: 94 S
part 95 pins: 95 S
part 96 pins: 96 S
part 97 pins: 97 S
part 98 pins: 98 S